# Altium footprint library WePcbLib.PcbLib: 177 footprints (part 2 of 12)
Each footprint in its own frame and in the unit in brackets; x right, y up, seen from the top. Pads: shape width x height; smd on the part's side, far side on the other; paste and mask are expansions set on the pad; w line width, h text height; cw(c..) or ccw(c..) is an arc to the next point about the centre after c.
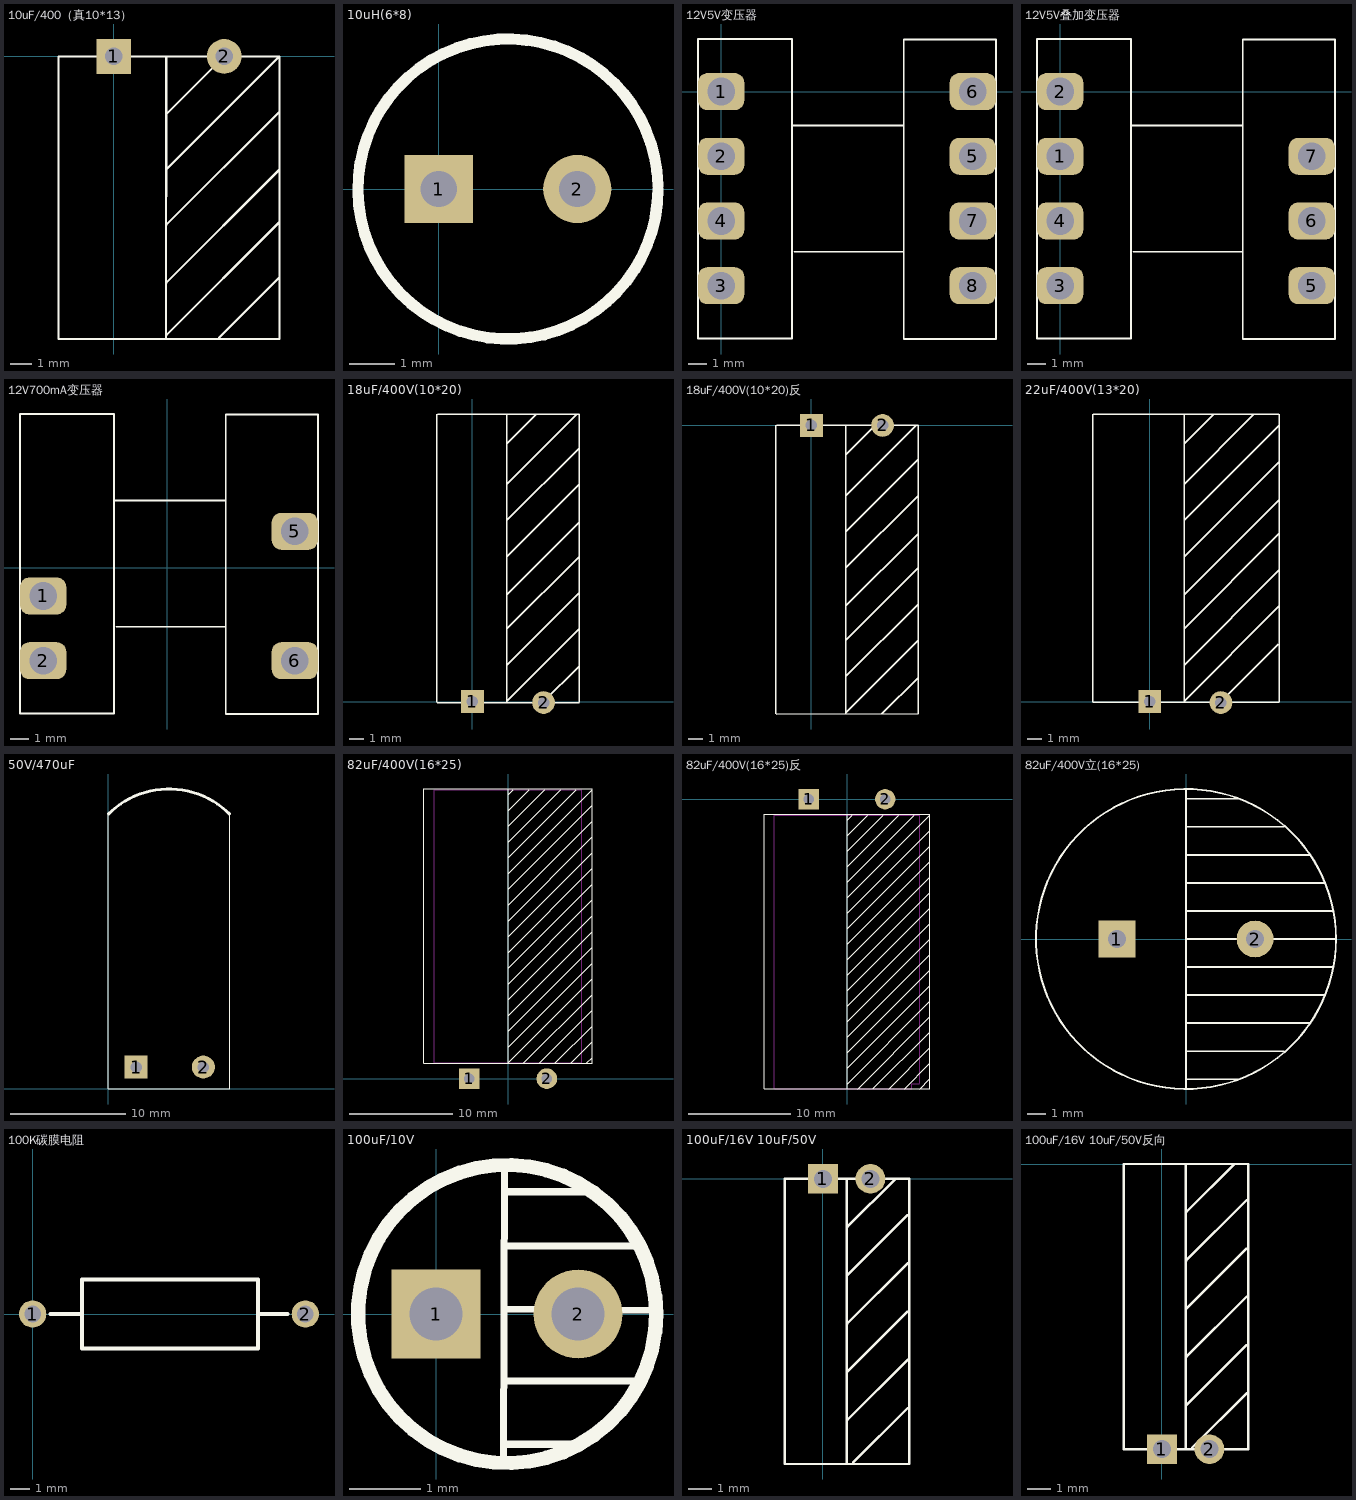
[diagram p1: the footprints below, top view; thin cyan lines are the x and y axes]

## 10uF/400（真10*13） [mm]
pads (2):
  rect 1.6x1.6 hole 0.8: 1(0,0)
  round 1.6 hole 0.8: 2(5.08,0)
Top Overlay:
  lines w0.1: 2.403,-12.95 2.413,0 ; 2.413,-12.827 7.62,-7.62 ; 2.413,-10.414 7.62,-5.207 7.62,-5.08 ; 2.413,-7.747 7.62,-2.54 ; 2.413,-5.207 7.62,0 ; 2.413,-2.667 5.08,0 5.08,-0.127 ; 4.84,-12.94 7.62,-10.16 ; 7.62,-12.793 7.62,-12.7 ; 7.62,0 7.62,-13 -2.54,-13 -2.54,0 7.62,0

## 10uH(6*8) [mm]
pads (2):
  rect 1.5x1.5 hole 0.8: 1(0,0)
  round 1.5 hole 0.8: 2(3.048,0)
Top Overlay:
  lines w0.25: 4.824,0 cw(c1.524,0) 4.823,0.083

## 12V5V变压器 [mm]
pads (8):
  rrect50% 2.5x2 hole 1.5: 1(0,0) 2(0,-3.5) 3(0,-10.5) 4(0,-7) 5(13.614,-3.5) 6(13.614,0) 7(13.614,-7) 8(13.614,-10.5)
Top Overlay:
  lines w0.1: 3.835,-1.829 9.881,-1.829 ; 3.962,-8.661 9.881,-8.661 ; -1.245,-13.36 -1.245,2.845 3.835,2.845 3.835,-13.36 -1.245,-13.36 ; 9.881,-13.386 9.881,2.794 9.906,2.819 14.859,2.819 14.859,-13.386 9.881,-13.386

## 12V5V叠加变压器 [mm]
pads (7):
  rrect50% 2.5x2 hole 1.5: 1(0,-3.5) 2(0,0) 3(0,-10.5) 4(0,-7) 5(13.614,-10.5) 6(13.614,-7) 7(13.614,-3.5)
Top Overlay:
  lines w0.1: 3.835,-1.829 9.881,-1.829 ; 3.962,-8.661 9.881,-8.661 ; -1.245,-13.36 -1.245,2.845 3.835,2.845 3.835,-13.36 -1.245,-13.36 ; 9.881,-13.386 9.881,2.794 9.906,2.819 14.859,2.819 14.859,-13.386 9.881,-13.386

## 12V700mA变压器 [mm]
pads (4):
  rrect50% 2.5x2 hole 1.5: 1(-6.707,-1.537) 2(-6.707,-5.037) 5(6.907,1.963) 6(6.907,-5.037)
Top Overlay:
  lines w0.1: -2.872,3.634 3.173,3.634 ; -2.745,-3.198 3.173,-3.198 ; -7.952,-7.897 -7.952,8.308 -2.872,8.308 -2.872,-7.897 -7.952,-7.897 ; 3.173,-7.923 3.173,8.257 3.199,8.282 8.152,8.282 8.152,-7.923 3.173,-7.923

## 18uF/400V(10*20) [mm]
pads (2):
  rect 1.6x1.6 hole 0.8: 1(0,0)
  round 1.6 hole 0.8: 2(5,-0.076)
Top Overlay:
  lines w0.1: -2.5,-0.068 -2.5,20.2 ; -2.475,-0.075 7.5,-0.069 ; -2.45,20.2 7.5,20.2 7.5,-0.068 ; 2.413,-0.068 2.413,20.175 ; 2.413,0.025 7.469,5.081 ; 2.413,2.565 7.499,7.651 ; 2.413,5.105 7.491,10.184 ; 2.413,7.518 7.46,12.565 ; 2.413,10.185 7.501,15.274 ; 2.413,12.725 7.494,17.806 ; 2.413,15.265 7.324,20.176 ; 2.425,18.125 4.5,20.2 ; 4.953,-0.068 7.498,2.477

## 18uF/400V(10*20)反 [mm]
pads (2):
  rect 1.6x1.6 hole 0.8: 1(0,0)
  round 1.6 hole 0.8: 2(5,0)
Top Overlay:
  lines w0.1: -2.5,-20.268 -2.5,0 ; -2.475,-20.275 7.5,-20.269 ; -2.45,0 7.5,0 7.5,-20.268 ; 2.413,-20.268 2.413,-0.025 ; 2.413,-20.175 7.469,-15.119 ; 2.413,-17.635 7.499,-12.549 ; 2.413,-15.095 7.491,-10.016 ; 2.413,-12.682 7.46,-7.635 ; 2.413,-10.015 7.501,-4.926 ; 2.413,-7.475 7.494,-2.394 ; 2.413,-4.935 7.324,-0.024 ; 2.425,-2.075 4.5,0 ; 4.953,-20.268 7.498,-17.723

## 22uF/400V(13*20) [mm]
pads (2):
  rect 1.6x1.6 hole 0.8: 1(0,0)
  round 1.6 hole 0.8: 2(5,-0.076)
Top Overlay:
  lines w0.1: -4,-0.068 -4,20.2 ; -3.96,20.2 9.075,20.2 ; -3.95,-0.068 9.075,-0.068 ; 2.413,-0.068 2.413,20.175 ; 2.413,0.025 9.069,6.681 ; 2.413,2.565 9.099,9.251 ; 2.413,5.105 9.079,11.771 ; 2.413,7.518 9.085,14.19 ; 2.413,10.185 9.051,16.824 ; 2.413,12.725 9.069,19.381 ; 2.413,15.265 7.324,20.176 ; 2.425,18.125 4.5,20.2 ; 4.953,-0.068 9.035,4.015 ; 9.1,-0.068 9.1,20.2

## 50V/470uF [mm]
height 4.6
pads (2):
  rect 2x2 hole 1: 1(2.413,1.905)
  round 2 hole 1: 2(8.255,1.905)
Top Overlay:
  lines w0.1: 0,23.876 0,0 5.08,0 10.541,0 10.541,23.876
  lines w0.254: 0,23.876 cw(c5.271,18.605) 10.541,23.876

## 82uF/400V(16*25) [mm]
pads (2):
  rect 2x2 hole 1: 1(-3.75,0)
  round 2 hole 1: 2(3.75,0)
Top Overlay:
  lines w0.1: 0,1.5 0,28 ; 0,1.524 8.128,9.652 ; 0,3.048 8.128,11.176 ; 0,4.572 8.128,12.7 ; 0,6.096 8.128,14.224 ; 0,7.62 8.128,15.748 ; 0,9.144 8.128,17.272 ; 0,10.668 8.128,18.796 ; 0,12.192 8.128,20.32 ; 0,13.716 8.128,21.844 ; 0,15.24 8.128,23.368 ; 0,16.764 8.128,24.892 ; 0,18.288 8.128,26.416 ; 0,19.812 8.128,27.94 ; 0,21.336 6.604,27.94 ; 0,22.86 5.08,27.94 ; 0,24.384 3.556,27.94 ; 0,25.908 2.032,27.94 ; 0,27.432 0.508,27.94 ; 1.524,1.524 8.128,8.128 ; 3.048,1.524 8.128,6.604 ; 4.572,1.524 8.128,5.08 ; 6.096,1.524 8.128,3.556 ; 7.62,1.524 8.128,2.032 ; -8.15,1.5 8.15,1.5 8.15,28 -8.15,28 -8.15,1.5
Keep-Out Layer:
  lines w0.102: -7.128,1.524 -7.128,27.94 7.128,27.94 7.128,1.524 -7.128,1.524

## 82uF/400V(16*25)反 [mm]
pads (2):
  rect 2x2 hole 1: 1(-3.75,0)
  round 2 hole 1: 2(3.75,0)
Top Overlay:
  lines w0.1: 0,-28.448 0,-27.94 ; 0,-26.452 8.128,-18.324 ; 0,-24.928 8.128,-16.8 ; 0,-23.404 8.128,-15.276 ; 0,-21.88 8.128,-13.752 ; 0,-20.356 8.128,-12.228 ; 0,-18.832 8.128,-10.704 ; 0,-17.308 8.128,-9.18 ; 0,-15.784 8.128,-7.656 ; 0,-14.26 8.128,-6.132 ; 0,-12.736 8.128,-4.608 ; 0,-11.212 8.128,-3.084 ; 0,-9.688 8.128,-1.56 ; 0,-8.164 6.604,-1.56 ; 0,-6.64 5.08,-1.56 ; 0,-5.116 3.556,-1.56 ; 0,-3.592 2.032,-1.56 ; 0,-2.068 0.508,-1.56 ; 0,-1.5 0,-27.976 8.128,-19.848 ; 1.034,-28.466 8.128,-21.372 ; 2.54,-28.448 8.128,-22.896 ; 4.082,-28.466 8.128,-24.42 ; 5.606,-28.466 8.128,-25.944 ; 7.13,-28.466 8.128,-27.468 ; -8.15,-28.448 8.15,-28.448 8.15,-1.5 -8.15,-1.5 -8.15,-28.448
Keep-Out Layer:
  lines w0.102: -7.128,-28.448 -7.128,-1.56 7.128,-1.56 7.128,-27.9 ; -7.112,-28.448 6.35,-28.448 6.35,-27.94 7.112,-27.94

## 82uF/400V立(16*25) [mm]
pads (2):
  rect 2x2 hole 1: 1(-3.75,0)
  round 2 hole 1: 2(3.75,0)
Top Overlay:
  circle w0.102: c0,0 r8.15
  lines w0.102: 0,-8.128 0,8.128 ; 0,-7.62 2.794,-7.62 ; 0,-6.096 5.334,-6.096 ; 0,-4.572 6.731,-4.572 ; 0,-3.048 7.493,-3.048 ; 0,-1.524 8.001,-1.524 ; 0,0 8.128,0 ; 0,1.524 8.001,1.524 ; 0,3.048 7.493,3.048 ; 0,4.572 6.731,4.572 ; 0,6.096 5.334,6.096 ; 0,7.62 2.794,7.62

## 100K碳膜电阻 [mm]
pads (2):
  round 1.4 hole 0.85: 1(0,0) 2(14,0)
Top Overlay:
  lines w0.2: 0.904,0 2.428,0 ; 11.572,0 13.096,0 ; 2.54,-1.778 11.572,-1.778 11.572,1.778 2.54,1.778 2.54,-1.778

## 100uF/10V [mm]
pads (2):
  rect 1.25x1.25 hole 0.75: 1(0,0)
  round 1.25 hole 0.75: 2(2,0)
Top Overlay:
  circle w0.2: c1,0 r2.1
  lines w0.1: 0.95,-2.1 0.961,2.1 ; 0.961,-1.834 1.975,-1.834 ; 0.961,-0.945 2.875,-0.945 ; 0.961,0.071 3.125,0.05 ; 0.961,0.96 2.875,0.96 ; 0.961,1.722 2.2,1.722

## 100uF/16V 10uF/50V [mm]
pads (2):
  rect 1.25x1.25 hole 0.75: 1(0,0)
  round 1.25 hole 0.75: 2(2,0)
Top Overlay:
  lines w0.1: 1,-12 1,0 ; 1.016,-10.16 3.556,-7.62 ; 1.016,-8.128 3.556,-5.588 ; 1.016,-6.096 3.556,-3.556 ; 1.016,-4.064 3.556,-1.524 ; 1.016,-2.032 3.048,0 ; 1.27,-11.938 3.556,-9.652 ; 3.6,-12 -1.6,-12 -1.6,0 3.6,0 ; 3.625,-12 3.625,0

## 100uF/16V 10uF/50V反向 [mm]
pads (2):
  rect 1.25x1.25 hole 0.75: 1(0,-12)
  round 1.25 hole 0.75: 2(2,-12)
Top Overlay:
  lines w0.1: 1,-12 1,0 ; 1.016,-10.16 3.556,-7.62 ; 1.016,-8.128 3.556,-5.588 ; 1.016,-6.096 3.556,-3.556 ; 1.016,-4.064 3.556,-1.524 ; 1.016,-2.032 3.048,0 ; 1.27,-11.938 3.556,-9.652 ; 3.6,-12 -1.6,-12 -1.6,0 3.6,0 ; 3.625,-12 3.625,0